# EAGLE library part ES_BUFFER (library Electrosmith_Boards)
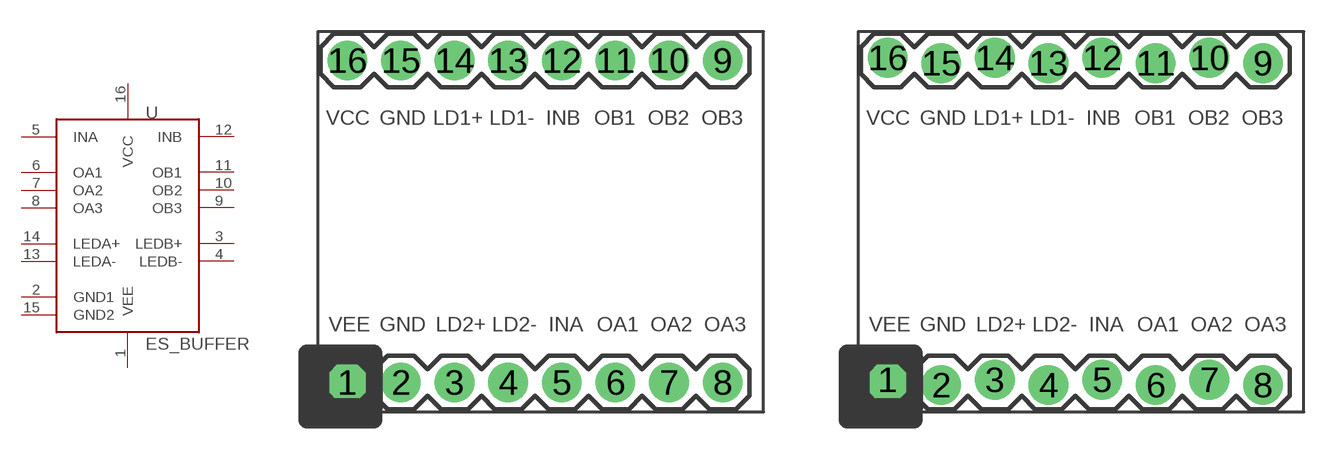
[diagram p16: symbol with the pads of ES_BUFFER; footprints ES_BUFFER, ES_BUFFER_LOCK]

Designator prefix U

## ES_BUFFER  [ES_BUFFER]
1  VEE
2  GND1
3  LEDB+
4  LEDB-
5  INA
6  OA1
7  OA2
8  OA3
9  OB3
10  OB2
11  OB1
12  INB
13  LEDA-
14  LEDA+
15  GND2
16  VCC

## ES_BUFFER_LOCK  [ES_BUFFER_LOCK]
Pads as for ES_BUFFER

## Footprint ES_BUFFER (pad centres in mm)
drill 1.016 pad 1.88 square: 1 1.395,1.395
drill 1.016 pad 1.88: 2 3.935,1.395; 3 6.475,1.395; 4 9.015,1.395; 5 11.555,1.395; 6 14.095,1.395; 7 16.635,1.395; 8 19.175,1.395; 9 19.175,16.635; 10 16.635,16.635; 11 14.095,16.635; 12 11.555,16.635; 13 9.015,16.635; 14 6.475,16.635; 15 3.935,16.635; 16 1.395,16.635

## Footprint ES_BUFFER_LOCK (pad centres in mm)
drill 1.016 pad 1.88 square: 1 1.395,1.522
drill 1.016 pad 1.88: 2 3.935,1.268; 3 6.475,1.522; 4 9.015,1.268; 5 11.555,1.522; 6 14.095,1.268; 7 16.635,1.522; 8 19.175,1.268; 9 19.175,16.508; 10 16.635,16.762; 11 14.095,16.508; 12 11.555,16.762; 13 9.015,16.508; 14 6.475,16.762; 15 3.935,16.508; 16 1.395,16.762